# EAGLE library part ENC424J600 (library untitled)
Stand-Alone 10/100 Ethernet Controller with SPI or Parallel Interface Source: http://ww1.microchip.com/downloads/en/DeviceDoc/39935c.pdf
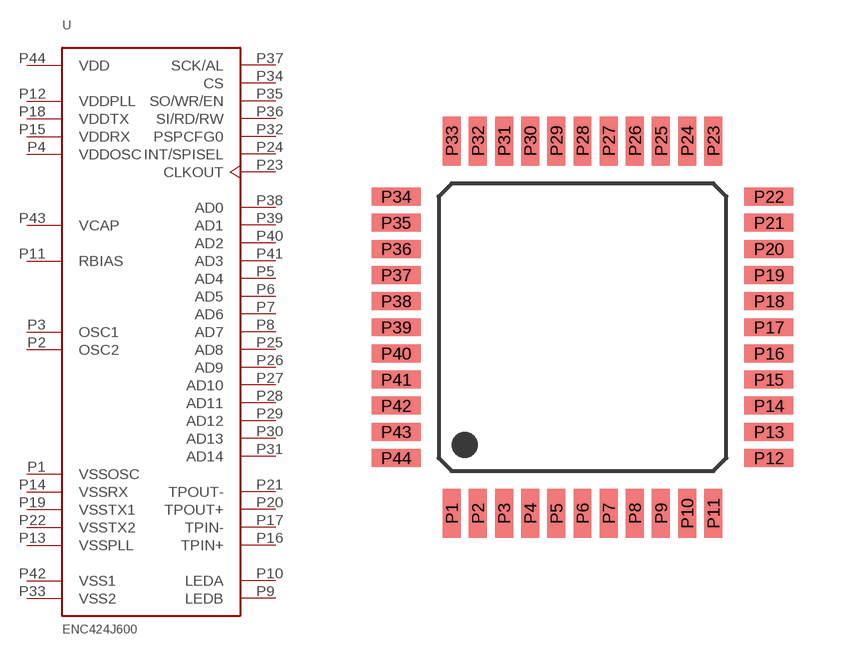
[diagram p18: symbol with the pads of TQFP44; footprint TQFP44]

Designator prefix U

## ENC424J600  [TQFP44]
P1  VSSOSC  in
P2  OSC2  out
P3  OSC1  in
P4  VDDOSC  in
P5  AD4
P6  AD5
P7  AD6
P8  AD7
P9  LEDB  out
P10  LEDA  out
P11  RBIAS  in
P12  VDDPLL  in
P13  VSSPLL  in
P14  VSSRX  in
P15  VDDRX  in
P16  TPIN+  in
P17  TPIN-  in
P18  VDDTX  in
P19  VSSTX1  in
P20  TPOUT+  out
P21  TPOUT-  out
P22  VSSTX2  in
P23  CLKOUT  out
P24  INT/SPISEL
P25  AD8
P26  AD9
P27  AD10
P28  AD11
P29  AD12
P30  AD13
P31  AD14
P32  PSPCFG0  in
P33  VSS2  in
P34  CS  in
P35  SO/WR/EN
P36  SI/RD/RW  in
P37  SCK/AL  in
P38  AD0
P39  AD1  in
P40  AD2
P41  AD3
P42  VSS1  in
P43  VCAP  in
P44  VDD  in

## Footprint TQFP44 (pad centres in mm)
smd 0.55 x 1.5: P1 -4,-5.7; P2 -3.2,-5.7; P3 -2.4,-5.7; P4 -1.6,-5.7; P5 -0.8,-5.7; P6 0,-5.7; P7 0.8,-5.7; P8 1.6,-5.7; P9 2.4,-5.7; P10 3.2,-5.7; P11 4,-5.7; P23 4,5.7; P24 3.2,5.7; P25 2.4,5.7; P26 1.6,5.7; P27 0.8,5.7; P28 0,5.7; P29 -0.8,5.7; P30 -1.6,5.7; P31 -2.4,5.7; P32 -3.2,5.7; P33 -4,5.7
smd 1.5 x 0.55: P12 5.7,-4; P13 5.7,-3.2; P14 5.7,-2.4; P15 5.7,-1.6; P16 5.7,-0.8; P17 5.7,0; P18 5.7,0.8; P19 5.7,1.6; P20 5.7,2.4; P21 5.7,3.2; P22 5.7,4; P34 -5.7,4; P35 -5.7,3.2; P36 -5.7,2.4; P37 -5.7,1.6; P38 -5.7,0.8; P39 -5.7,0; P40 -5.7,-0.8; P41 -5.7,-1.6; P42 -5.7,-2.4; P43 -5.7,-3.2; P44 -5.7,-4